# Altium schematic symbol library macro_sch_lib.SchLib: 76 symbols
Pins are listed as number, name and electrical type; pins without a type are passive.

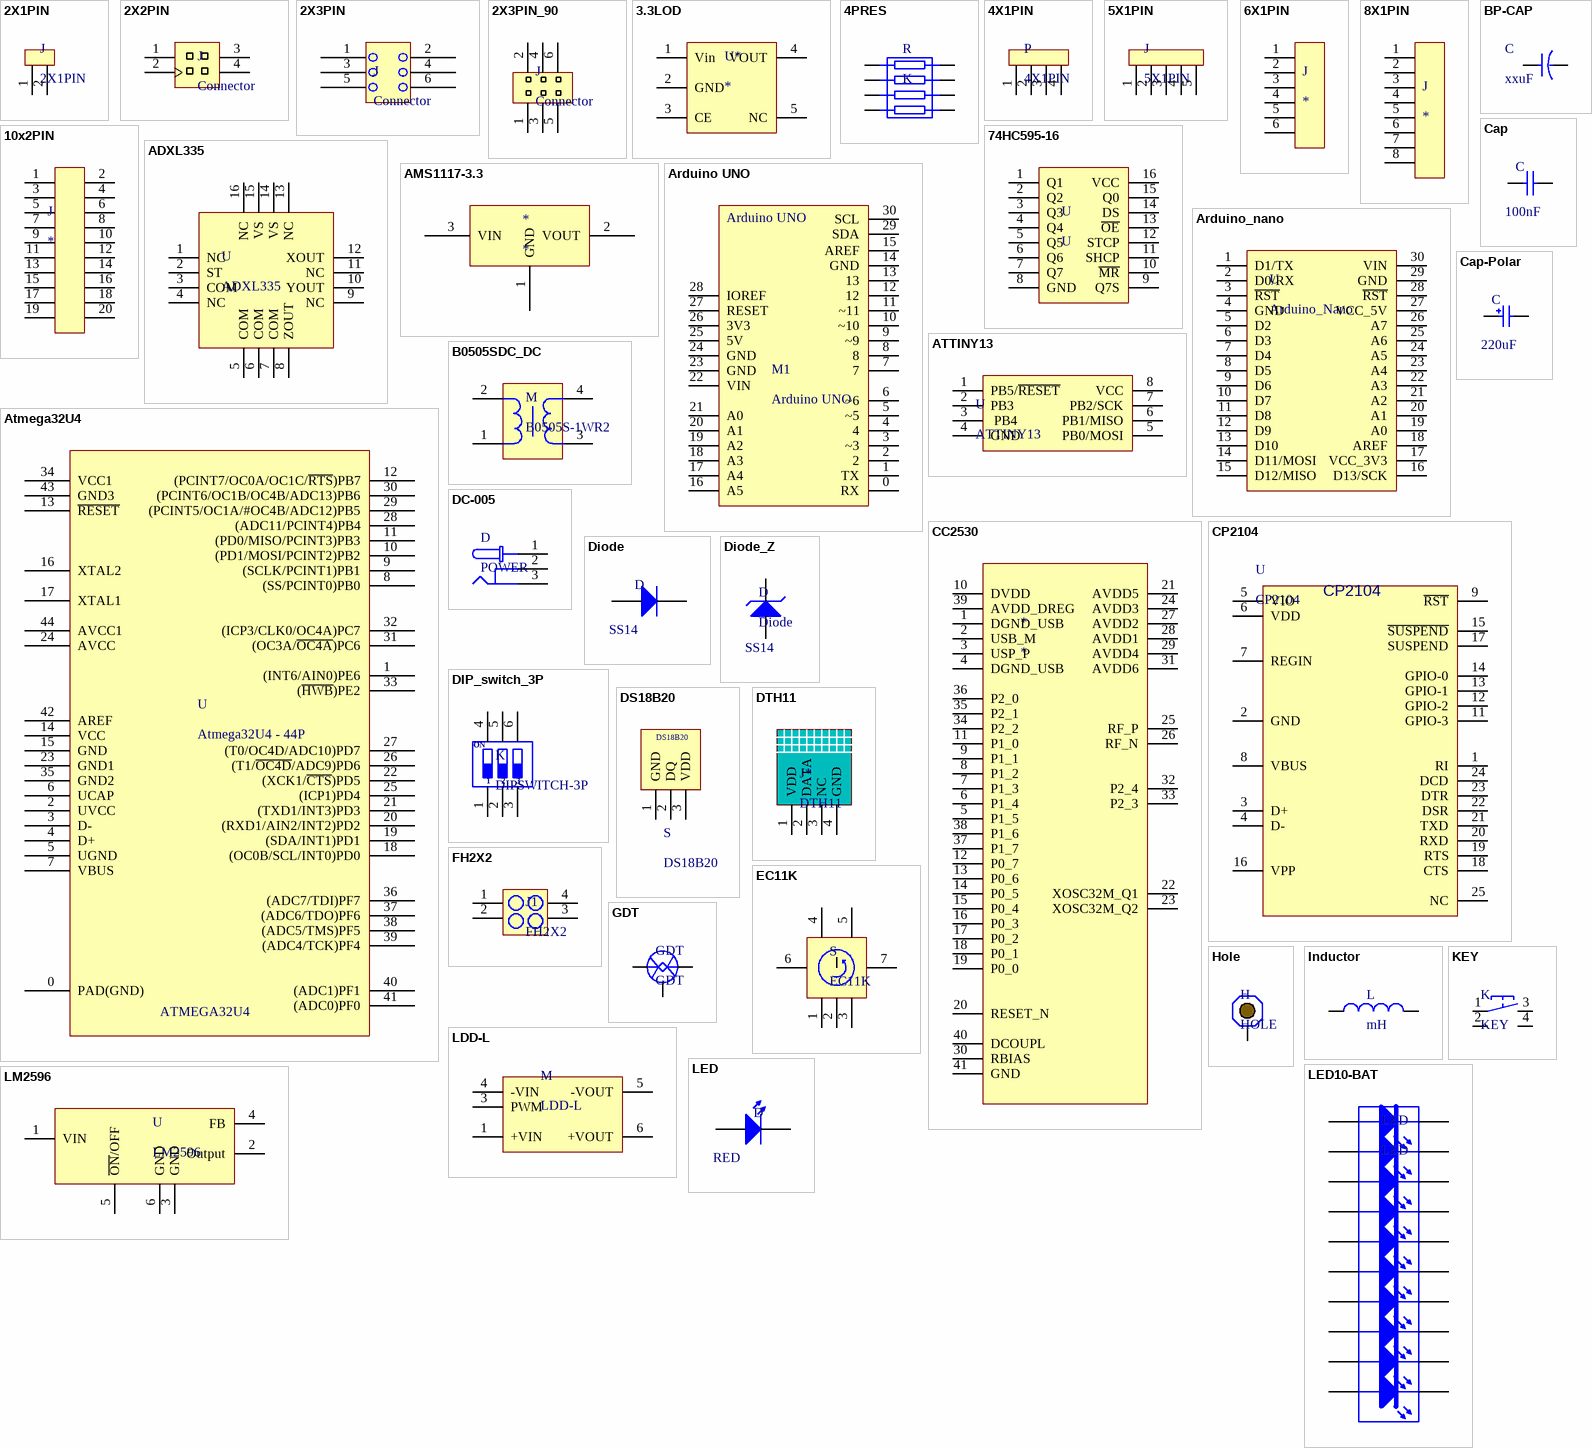
[diagram p0: symbols 2X1PIN to LM2596]

## 2X1PIN
designator J
Connector
footprint 2_54x2P
pins: 1, 2

## 2X2PIN
designator J, comment Connector
pins: 1, 2, 3, 4

## 2X3PIN
designator J, comment Connector
pins: 1, 2, 3, 4, 5, 6

## 2X3PIN_90
designator J, comment Connector
Simple Horn
pins: 1 "Test Point", 2 "Test Point", 3 "Test Point", 4 "Test Point", 5 "Test Point", 6 "Test Point"

## 3.3LOD
designator U*
pins: 1 Vin, 2 GND, 3 CE, 4 VOUT, 5 NC

## 4PRES
designator R, comment K
pins: 1, 2, 3, 4, 5, 6, 7, 8

## 4X1PIN
designator P
footprint 2_54X4P
pins: 1, 2, 3, 4

## 5X1PIN
designator J
pins: 1, 2, 3, 4, 5

## 6X1PIN
designator J
pins: 1, 2, 3, 4, 5, 6

## 8X1PIN
designator J
pins: 1, 2, 3, 4, 5, 6, 7, 8

## 10x2PIN
designator J
pins: 1 (power), 2 (power), 3 (power), 4 (power), 5 (power), 6 (power), 7 (power), 8 (power), 9 (power), 10 (power), 11 (power), 12 (power), 13 (power), 14 (power), 15 (power), 16 (power), 17 (power), 18 (power), 19 (power), 20 (power)

## 74HC595-16
designator U, comment U
pins: 1 Q1, 2 Q2, 3 Q3, 4 Q4, 5 Q5, 6 Q6, 7 Q7, 8 GND, 9 Q7S, 10 ~{MR}, 11 SHCP, 12 STCP, 13 ~{OE}, 14 DS, 15 Q0, 16 VCC

## ADXL335
designator U
pins: 1 NC, 2 ST, 3 COM, 4 NC, 5 COM, 6 COM, 7 COM, 8 ZOUT, 9 NC, 10 YOUT, 11 NC, 12 XOUT, 13 NC, 14 VS, 15 VS, 16 NC

## AMS1117-3.3
designator *
pins: 1 GND, 2 VOUT, 3 VIN

## Arduino UNO
designator M1
footprint ARDUINOSHIELD
footprint Arduino(S)30-2R54 (Arduino)
pins: 0 RX, 1 TX, 2, 3 ~3, 4, 5 ~5, 6 ~6, 7, 8, 9 ~9, 10 ~10, 11 ~11, 12, 13, 14 GND, 15 AREF, 16 A5, 17 A4, 18 A3, 19 A2, 20 A1, 21 A0, 22 VIN, 23 GND, 24 GND, 25 5V, 26 3V3, 27 RESET, 28 IOREF, 29 SDA, 30 SCL

## Arduino_nano
designator U, comment Arduino_Nano
footprint Arduino_Nano_1X15_2R54 (Arduino Nano)
pins: 1 D1/TX, 2 D0/RX, 3 ~{RST}, 4 GND, 5 D2, 6 D3, 7 D4, 8 D5, 9 D6, 10 D7, 11 D8, 12 D9, 13 D10, 14 D11/MOSI, 15 D12/MISO, 16 D13/SCK, 17 VCC_3V3, 18 AREF, 19 A0, 20 A1, 21 A2, 22 A3, 23 A4, 24 A5, 25 A6, 26 A7, 27 VCC_5V, 28 ~{RST}, 29 GND, 30 VIN

## Atmega32U4
designator U, comment Atmega32U4 - 44P
ATmega32U4
pins: 0 PAD(GND), 1 (INT6/AIN0)PE6, 2 UVCC, 3 D-, 4 D+, 5 UGND, 6 UCAP, 7 VBUS, 8 (SS/PCINT0)PB0, 9 (SCLK/PCINT1)PB1, 10 (PD1/MOSI/PCINT2)PB2, 11 (PD0/MISO/PCINT3)PB3, 12 (PCINT7/OC0A/OC1C/~{RTS})PB7, 13 ~{RESET}, 14 VCC, 15 GND, 16 XTAL2, 17 XTAL1, 18 (OC0B/SCL/INT0)PD0, 19 (SDA/INT1)PD1, 20 (RXD1/AIN2/INT2)PD2, 21 (TXD1/INT3)PD3, 22 (XCK1/~{CTS})PD5, 23 GND1, 24 AVCC, 25 (ICP1)PD4, 26 (T1/~{OC4D}/ADC9)PD6, 27 (T0/OC4D/ADC10)PD7, 28 (ADC11/PCINT4)PB4, 29 (PCINT5/OC1A/#OC4B/ADC12)PB5, 30 (PCINT6/OC1B/OC4B/ADC13)PB6, 31 (OC3A/~{OC4A})PC6, 32 (ICP3/CLK0/OC4A)PC7, 33 (~{HWB})PE2, 34 VCC1, 35 GND2, 36 (ADC7/TDI)PF7, 37 (ADC6/TDO)PF6, 38 (ADC5/TMS)PF5, 39 (ADC4/TCK)PF4, 40 (ADC1)PF1, 41 (ADC0)PF0, 42 AREF, 43 GND3, 44 AVCC1
text: ATMEGA32U4

## ATTINY13
designator U
pins: 1 PB5/~{RESET}, 2 PB3, 3  PB4, 4 GND, 5 PB0/MOSI, 6 PB1/MISO, 7 PB2/SCK, 8 VCC

## B0505SDC_DC
designator M, comment B0505S-1WR2
B0505S-1WR2 DC-DC
pins: 1, 2, 3, 4

## BP-CAP
designator C, comment xxuF
pins: 1, 2

## Cap
designator C, comment value 100nF  (hidden comment: Capacitance)
footprint C0603
pins: 1 Anode, 2

## Cap-Polar
designator C, comment value 220uF  (hidden comment: Capacitor Polar)
polar capacitor
pins: 1, 2

## CC2530
designator *
pins: 1 DGND_USB, 2 USB_M, 3 USP_P, 4 DGND_USB, 5 P1_5, 6 P1_4, 7 P1_3, 8 P1_2, 9 P1_1, 10 DVDD, 11 P1_0, 12 P0_7, 13 P0_6, 14 P0_5, 15 P0_4, 16 P0_3, 17 P0_2, 18 P0_1, 19 P0_0, 20 RESET_N, 21 AVDD5, 22 XOSC32M_Q1, 23 XOSC32M_Q2, 24 AVDD3, 25 RF_P, 26 RF_N, 27 AVDD2, 28 AVDD1, 29 AVDD4, 30 RBIAS, 31 AVDD6, 32 P2_4, 33 P2_3, 34 P2_2, 35 P2_1, 36 P2_0, 37 P1_7, 38 P1_6, 39 AVDD_DREG, 40 DCOUPL, 41 GND

## CP2104
designator U
ComponentLink1Description: CP2104; ComponentLink1URL: https://www.silabs.com/documents/public/data-sheets/cp2104.pdf
pins: 1 RI, 2 GND, 3 D+, 4 D-, 5 VIO, 6 VDD, 7 REGIN, 8 VBUS, 9 ~{RST}, 11 GPIO-3, 12 GPIO-2, 13 GPIO-1, 14 GPIO-0, 15 ~{SUSPEND}, 16 VPP, 17 SUSPEND, 18 CTS, 19 RTS, 20 RXD, 21 TXD, 22 DSR, 23 DTR, 24 DCD, 25 NC
1 alternate drawing of the same symbol

## DC-005
designator D, comment POWER
footprint DC-005
pins: 1, 2, 3

## Diode
designator D  value SS14  (hidden comment: Diode)
pins: 1 Anode, 2 Cathode

## Diode_Z
designator D, comment Diode  value SS14
pins: 1, 2

## DIP_switch_3P
designator K, comment DIPSWITCH-3P
pins: 1, 2, 3, 4, 5, 6
text: ON

## DS18B20
designator S
pins: 1 GND, 2 DQ, 3 VDD

## DTH11
designator J*
pins: 1 VDD, 2 DATA, 3 NC, 4 GND

## EC11K
designator S
pins: 1 A, 2 C, 3 B, 4 D, 5 E, 6, 7

## FH2X2
designator J1
footprint FH(D)2X2-2R54
pins: 1, 2, 3, 4

## GDT
designator GDT
pins: 1, 2, 3

## Hole
designator H, comment HOLE
footprint 3_5Hole
pins: 0

## Inductor
designator L, comment mH
pins: 1, 2

## KEY
designator K
pins: 1, 2, 3, 4

## LDD-L
designator M
LDD-L moudles
pins: 1 +VIN, 3 PWM, 4 -VIN, 5 -VOUT, 6 +VOUT

## LED
designator D  Color: RED  (hidden comment: LED)
LED SMT
footprint D0603
pins: 1 Anode, 2 Cathode

## LED10-BAT
designator LED, comment LED
pins: 1, 2, 3, 4, 5, 6, 7, 8, 9, 10, 11, 12, 13, 14, 15, 16, 17, 18, 19, 20

## LM2596
designator U
pins: 1 VIN, 2 Output, 3 GND, 4 FB, 5 ~{ON}/OFF, 6 GND

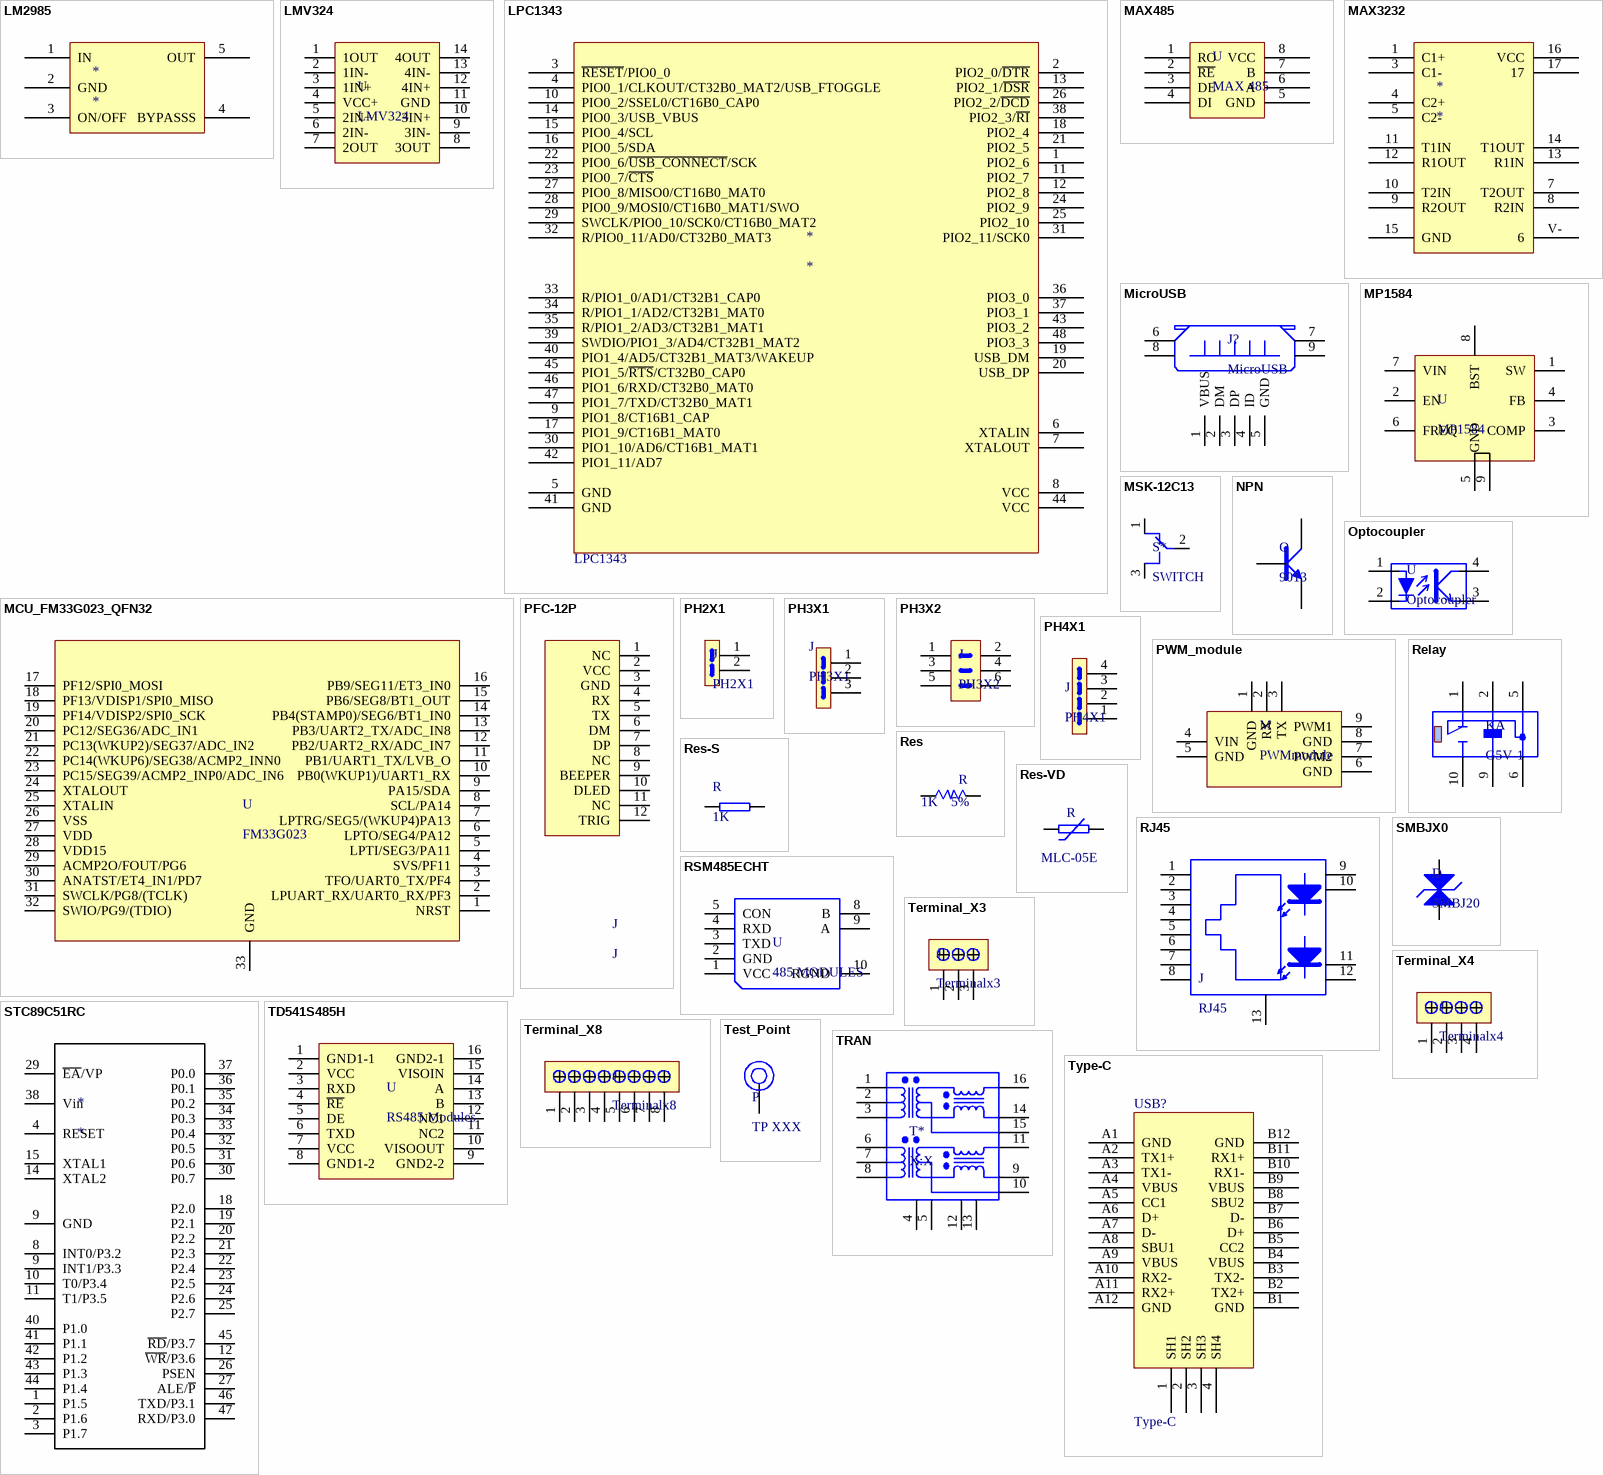
[diagram p1: symbols LM2985 to Type-C]

## LM2985
designator *
pins: 1 IN, 2 GND, 3 ON/OFF, 4 BYPASSS, 5 OUT

## LMV324
designator U
footprint LMV324X14 (SOP, 14-Leads, Body 8.65x3.90mm, Pitch 1.27mm, IPC Medium Density)
pins: 1 1OUT, 2 1IN-, 3 1IN+, 4 VCC+, 5 2IN+, 6 2IN-, 7 2OUT, 8 3OUT, 9 3IN-, 10 3IN+, 11 GND, 12 4IN+, 13 4IN-, 14 4OUT

## LPC1343
designator *
pins: 1 PIO2_6, 2 PIO2_0/~{DTR}, 3 ~{RESET}/PIO0_0, 4 PIO0_1/CLKOUT/CT32B0_MAT2/USB_FTOGGLE, 5 GND, 6 XTALIN, 7 XTALOUT, 8 VCC, 9 PIO1_8/CT16B1_CAP, 10 PIO0_2/SSEL0/CT16B0_CAP0, 11 PIO2_7, 12 PIO2_8, 13 PIO2_1/~{DSR}, 14 PIO0_3/USB_VBUS, 15 PIO0_4/SCL, 16 PIO0_5/SDA, 17 PIO1_9/CT16B1_MAT0, 18 PIO2_4, 19 USB_DM, 20 USB_DP, 21 PIO2_5, 22 PIO0_6/~{USB_CONNECT}/SCK, 23 PIO0_7/~{CTS}, 24 PIO2_9, 25 PIO2_10, 26 PIO2_2/~{DCD}, 27 PIO0_8/MISO0/CT16B0_MAT0, 28 PIO0_9/MOSI0/CT16B0_MAT1/SWO, 29 SWCLK/PIO0_10/SCK0/CT16B0_MAT2, 30 PIO1_10/AD6/CT16B1_MAT1, 31 PIO2_11/SCK0, 32 R/PIO0_11/AD0/CT32B0_MAT3, 33 R/PIO1_0/AD1/CT32B1_CAP0, 34 R/PIO1_1/AD2/CT32B1_MAT0, 35 R/PIO1_2/AD3/CT32B1_MAT1, 36 PIO3_0, 37 PIO3_1, 38 PIO2_3/~{RI}, 39 SWDIO/PIO1_3/AD4/CT32B1_MAT2, 40 PIO1_4/AD5/CT32B1_MAT3/WAKEUP, 41 GND, 42 PIO1_11/AD7, 43 PIO3_2, 44 VCC, 45 PIO1_5/~{RTS}/CT32B0_CAP0, 46 PIO1_6/RXD/CT32B0_MAT0, 47 PIO1_7/TXD/CT32B0_MAT1, 48 PIO3_3

## MAX485
designator U, comment MAX 485
485 CHIP
pins: 1 RO, 2 ~{RE}, 3 DE, 4 DI, 5 GND, 6 A, 7 B, 8 VCC

## MAX3232
designator *
pins: 1 C1+, 3 C1-, 4 C2+, 5 C2-, 7 T2OUT, 8 R2IN, 9 R2OUT, 10 T2IN, 11 T1IN, 12 R1OUT, 13 R1IN, 14 T1OUT, 15 GND, 16 VCC, 17, V- 6

## MCU_FM33G023_QFN32
designator U, comment FM33G023
FM33G023-QFN32
pins: 1 NRST, 2 LPUART_RX/UART0_RX/PF3, 3 TFO/UART0_TX/PF4, 4 SVS/PF11, 5 LPTI/SEG3/PA11, 6 LPTO/SEG4/PA12, 7 LPTRG/SEG5/(WKUP4)PA13, 8 SCL/PA14, 9 PA15/SDA, 10 PB0(WKUP1)/UART1_RX, 11 PB1/UART1_TX/LVB_O, 12 PB2/UART2_RX/ADC_IN7, 13 PB3/UART2_TX/ADC_IN8, 14 PB4(STAMP0)/SEG6/BT1_IN0, 15 PB6/SEG8/BT1_OUT, 16 PB9/SEG11/ET3_IN0, 17 PF12/SPI0_MOSI, 18 PF13/VDISP1/SPI0_MISO, 19 PF14/VDISP2/SPI0_SCK, 20 PC12/SEG36/ADC_IN1, 21 PC13(WKUP2)/SEG37/ADC_IN2, 22 PC14(WKUP6)/SEG38/ACMP2_INN0, 23 PC15/SEG39/ACMP2_INP0/ADC_IN6, 24 XTALOUT, 25 XTALIN, 26 VSS, 27 VDD, 28 VDD15, 29 ACMP2O/FOUT/PG6, 30 ANATST/ET4_IN1/PD7, 31 SWCLK/PG8/(TCLK), 32 SWIO/PG9/(TDIO), 33 GND

## MicroUSB
designator J?
MicroUSB -9Pin
footprint MicroUSB-9 (MICROUSB CONNECT)
footprint MicroUSB-SMD-9P (MICROUSB CONNECT)
pins: 1 VBUS, 2 DM, 3 DP, 4 ID, 5 GND, 6, 7, 8, 9

## MP1584
designator U
pins: 1 SW, 2 EN, 3 COMP, 4 FB, 5 GND, 6 FREQ, 7 VIN, 8 BST, 9

## MSK-12C13
designator S*, comment SWITCH
footprint MSK-12C13 (SWITCH)
pins: 1, 2, 3, 4 hidden, 5 hidden

## NPN
designator Q, comment 9013
pins: 1 B, 2 E, 3 C

## Optocoupler
designator U
pins: 1, 2, 3, 4

## PFC-12P
designator J, comment J
pins: 1 NC, 2 VCC, 3 GND, 4 RX, 5 TX, 6 DM, 7 DP, 8 NC, 9 BEEPER, 10 DLED, 11 NC, 12 TRIG

## PH2X1
designator J
pins: 1, 2

## PH3X1
designator J
Pin header
footprint PH(D)3-2R54-7R62X2R54
pins: 1, 2, 3

## PH3X2
designator J
pins: 1, 2, 3, 4  , 5  , 6  

## PH4X1
designator J
Pin header
pins: 1, 2, 3, 4

## PWM_module
designator M, comment PWMmodule
pins: 1 GND, 2 RX, 3 TX, 4 VIN, 5 GND, 6 GND, 7 PWM2, 8 GND, 9 PWM1

## Relay
designator KA, comment G5V-1
pins: 1, 2, 5, 6, 9, 10

## Res
designator R, comment value 1K  Accuracy: 5%  (hidden comment: Resitance)
footprint R0603
pins: 1, 2

## Res-S
designator R, comment 1K
pins: 7, 8

## Res-VD
designator R, comment value MLC-05E  (hidden comment: voltage-dependent)
pins: 1, 2

## RJ45
designator J
pins: 1, 2, 3, 4, 5, 6, 7, 8 (oe), 9 (power), 10, 11 (power), 12, 13 (power)

## RSM485ECHT
designator U, comment 485 MODULES
pins: 1 VCC, 2 GND, 3 TXD, 4 RXD, 5 CON, 8 B, 9 A, 10 RGND

## SMBJX0
designator D, comment SMBJ20
TVS Diode
pins: 1, 2

## STC89C51RC
designator *
pins: 1 P1.5, 2 P1.6, 3 P1.7, 4 RESET, 8 INT0/P3.2, 9 GND, 9 INT1/P3.3, 10 T0/P3.4, 11 T1/P3.5, 12 ~{WR}/P3.6, 14 XTAL2, 15 XTAL1, 18 P2.0, 19 P2.1, 20 P2.2, 21 P2.3, 22 P2.4, 23 P2.5, 24 P2.6, 25 P2.7, 26 PSEN, 27 ALE/~{P}, 29 ~{EA}/VP, 30 P0.7, 31 P0.6, 32 P0.5, 33 P0.4, 34 P0.3, 35 P0.2, 36 P0.1, 37 P0.0, 38 Vin, 40 P1.0, 41 P1.1, 42 P1.2, 43 P1.3, 44 P1.4, 45 ~{RD}/P3.7, 46 TXD/P3.1, 47 RXD/P3.0

## TD541S485H
designator U, comment RS485 Modules
pins: 1 GND1-1, 2 VCC, 3 RXD, 4 ~{RE}, 5 DE, 6 TXD, 7 VCC, 8 GND1-2, 9 GND2-2, 10 VISOOUT, 11 NC2, 12 NC1, 13 B, 14 A, 15 VISOIN, 16 GND2-1

## Terminal_X3
designator J, comment Terminalx3
pins: 1, 2, 3

## Terminal_X4
designator J, comment Terminalx4
pins: 1, 2, 3, 4

## Terminal_X8
designator J, comment Terminalx8
pins: 1, 2, 3, 4, 5, 6, 7, 8

## Test_Point
designator P, comment TP XXX
Test Point
footprint TP(S)_1P_1R2 (Test Point 1.2 mm dot.)
pins: 1 "Test Point"

## TRAN
designator T*, comment X:X
pins: 1 (power), 2 (power), 3 (power), 4 (power), 5 (power), 6 (power), 7 (power), 8 (power), 9 (power), 10 (power), 11 (power), 12 (power), 13 (power), 14 (power), 15 (power), 16 (power)

## Type-C
designator USB?
footprint Type-C (16pin)
pins: 1 SH1, 2 SH2, 3 SH3, 4 SH4, A1 GND, A2 TX1+, A3 TX1-, A4 VBUS, A5 CC1, A6 D+, A7 D-, A8 SBU1, A9 VBUS, A10 RX2-, A11 RX2+, A12 GND, B1 GND, B2 TX2+, B3 TX2-, B4 VBUS, B5 CC2, B6 D+, B7 D-, B8 SBU2, B9 VBUS, B10 RX1-, B11 RX1+, B12 GND

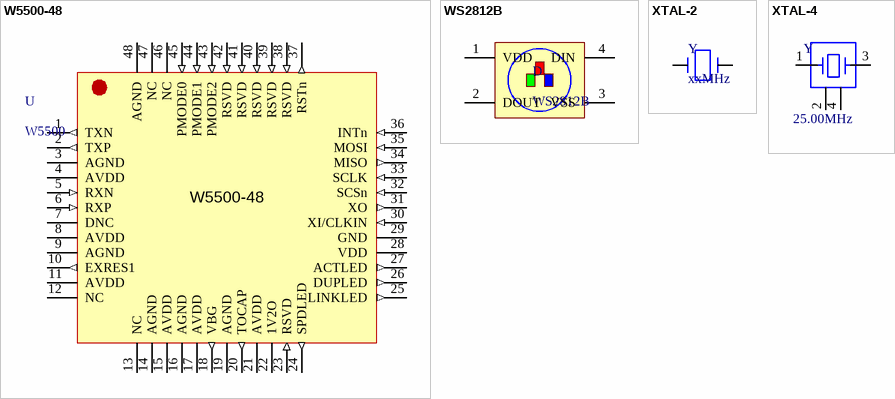
[diagram p2: symbols W5500-48 to XTAL-4]

## W5500-48
designator U, comment W5500
pins: 1 TXN (out), 2 TXP (out), 3 AGND (power), 4 AVDD (power), 5 RXN (in), 6 RXP (in), 7 DNC, 8 AVDD (power), 9 AGND (power), 10 EXRES1 (out), 11 AVDD (power), 12 NC, 13 NC, 14 AGND (power), 15 AVDD (power), 16 AGND (power), 17 AVDD (power), 18 VBG (out), 19 AGND (power), 20 TOCAP (out), 21 AVDD (power), 22 1V2O (power), 23 RSVD (in), 24 SPDLED (out), 25 LINKLED (out), 26 DUPLED (out), 27 ACTLED (out), 28 VDD (power), 29 GND (power), 30 XI/CLKIN (in), 31 XO (out), 32 SCSn (in), 33 SCLK (in), 34 MISO (out), 35 MOSI (in), 36 INTn (in), 37 RSTn (out), 38 RSVD (in), 39 RSVD (in), 40 RSVD (in), 41 RSVD (in), 42 RSVD (in), 43 PMODE2 (in), 44 PMODE1 (in), 45 PMODE0 (in), 46 NC, 47 NC, 48 AGND (power)

## WS2812B
designator D
LED 5050 WS2812B; Type: WS2812B
footprint WS2812B
pins: 1 VDD, 2 DOUT, 3 VSS, 4 DIN

## XTAL-2
designator Y, comment xxMHz
pins: 1, 2

## XTAL-4
designator Y, comment value 25.00MHz  (hidden comment: Crystal Oscillator)
pins: 1, 2, 3, 4